# Altium integrated library 电子时钟元件库.IntLib: 16 symbols
Pins are listed as number, name and electrical type; pins without a type are passive.

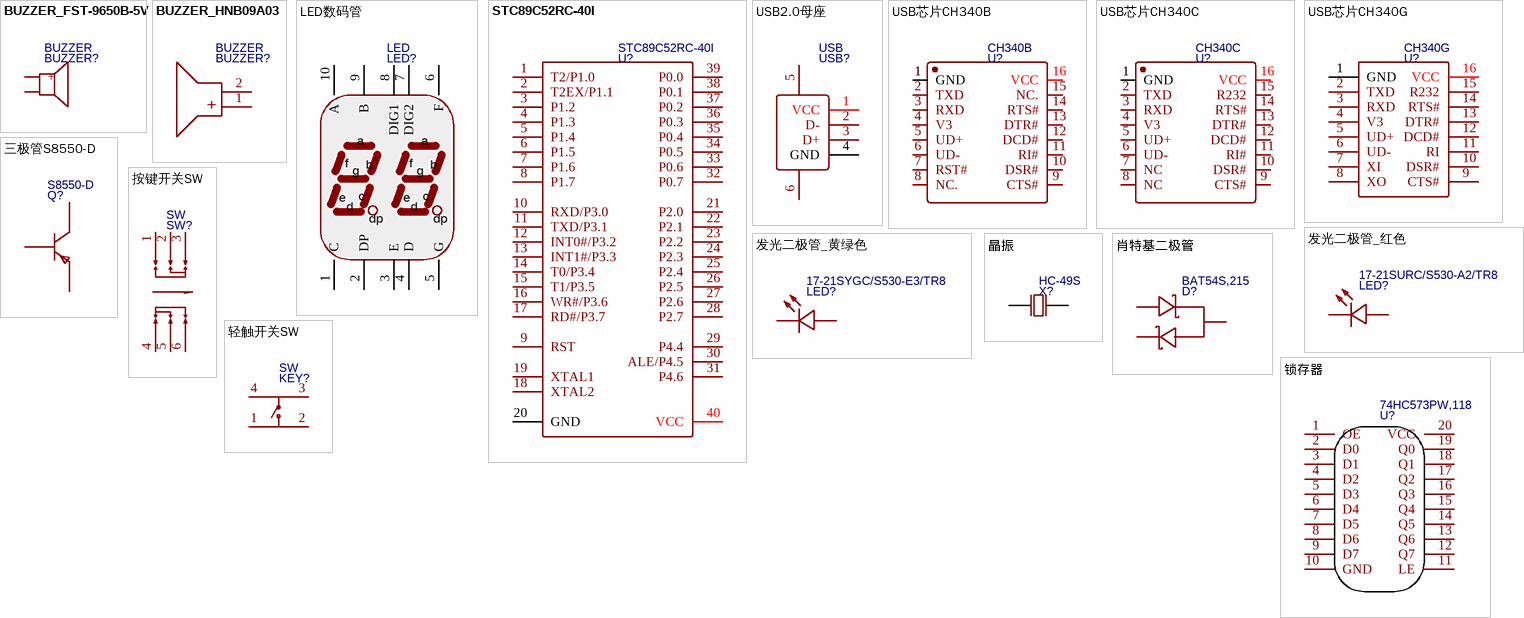
[diagram p0: symbols BUZZER_FST-9650B-5V to 锁存器]

## BUZZER_FST-9650B-5V
designator BUZZER?, comment BUZZER
BOM_Manufacturer: FUET; BOM_Manufacturer Part: FST-9650B-5V; Contributor: LCSC; BOM_Supplier: LCSC; BOM_Supplier Part: C391033; spicePre: B; spiceSymbolName: FST-9650B-5V
footprint BUZ-SMD_L9.6-W9.6-LS10.0-R
pins: 1 +, 2

## BUZZER_HNB09A03
designator BUZZER?, comment BUZZER
BOM_Manufacturer: Jiangsu Huaneng Elec; BOM_Manufacturer Part: HNB09A03; Contributor: LCSC; BOM_Supplier: LCSC; BOM_Supplier Part: C96102; spicePre: B; spiceSymbolName: HNB09A03
footprint BUZ-TH_BD9.0-P5.00-D0.6-FD
pins: 1 +, 2 -

## LED数码管
designator LED?, comment LED
BOM_Manufacturer: ARKLED; BOM_Manufacturer Part: SN460561N/0.56Inch/ /2Bit; BOM_Supplier: LCSC; BOM_Supplier Part: C118534; spicePre: L; spiceSymbolName: SN460561N/0.56Inch/ /2Bit
footprint LEDSEG_2_0.56_CATHODE
pins: 1 C, 2 DP, 3 E, 4 D, 5 G, 6 F, 7 DIG2, 8 DIG1, 9 B, 10 A
text: a; f; b; g; e; c; d; dp

## STC89C52RC-40I
designator U?
BOM_Manufacturer: STC; BOM_Supplier: LCSC; BOM_Manufacturer Part: STC89C52RC-40I; image: //image.lceda.cn/szlcsc/C14022.jpg; BOM_Supplier Part: C14022; spicePre: U; spiceSymbolName: STC89C52RC-40I
footprint DIP-40_LS15.24-L52.58-W13.97-PITCH2.54
pins: 1 T2/P1.0, 2 T2EX/P1.1, 3 P1.2, 4 P1.3, 5 P1.4, 6 P1.5, 7 P1.6, 8 P1.7, 9 RST, 10 RXD/P3.0, 11 TXD/P3.1, 12 INT0#/P3.2, 13 INT1#/P3.3, 14 T0/P3.4, 15 T1/P3.5, 16 WR#/P3.6, 17 RD#/P3.7, 18 XTAL2, 19 XTAL1, 20 GND, 21 P2.0, 22 P2.1, 23 P2.2, 24 P2.3, 25 P2.4, 26 P2.5, 27 P2.6, 28 P2.7, 29 P4.4, 30 ALE/P4.5, 31 P4.6, 32 P0.7, 33 P0.6, 34 P0.5, 35 P0.4, 36 P0.3, 37 P0.2, 38 P0.1, 39 P0.0, 40 VCC

## USB2.0母座
designator USB?, comment USB
BOM_Manufacturer: SHOU HAN; BOM_Manufacturer Part: AF90CBJ; Contributor: LCSC; BOM_Supplier: LCSC; BOM_Supplier Part: C404964; spicePre: U; spiceSymbolName: AF90CBJ
footprint USB-A-TH_AF90CBJ
pins: 1 VCC, 2 D-, 3 D+, 4 GND, 5 SH1, 6 SH2

## USB芯片CH340B
designator U?, comment CH340B
BOM_Manufacturer: WCH; BOM_Supplier: LCSC; BOM_Manufacturer Part: CH340B; image: //image.lceda.cn/szlcsc/C81010.jpg; BOM_Supplier Part: C81010; spicePre: U; spiceSymbolName: CH340B
footprint SOP-16_150MIL
pins: 1 GND, 2 TXD, 3 RXD, 4 V3, 5 UD+, 6 UD-, 7 RST#, 8 NC., 9 CTS#, 10 DSR#, 11 RI#, 12 DCD#, 13 DTR#, 14 RTS#, 15 NC., 16 VCC

## USB芯片CH340C
designator U?, comment CH340C
BOM_Manufacturer: WCH; BOM_Supplier: LCSC; BOM_Manufacturer Part: CH340C; BOM_Supplier Part: C84681; spicePre: U; spiceSymbolName: CH340C
footprint SOP-16_L10.0-W3.9-P1.27-LS6.0-BL
pins: 1 GND, 2 TXD, 3 RXD, 4 V3, 5 UD+, 6 UD-, 7 NC, 8 NC, 9 CTS#, 10 DSR#, 11 RI#, 12 DCD#, 13 DTR#, 14 RTS#, 15 R232, 16 VCC

## USB芯片CH340G
designator U?, comment CH340G
BOM_Manufacturer: WCH; SMT Type: Basic; timeStamp: 1468327462; BOM_Supplier: LCSC; BOM_Manufacturer Part: CH340G; BOM_LCSC Assembly: Yes; image: //image.lceda.cn/szlcsc/C14267.jpg; BOM_Supplier Part: C14267; spicePre: U; spiceSymbolName: CH340G
footprint SOIC-16_150MIL
pins: 1 GND, 2 TXD, 3 RXD, 4 V3, 5 UD+, 6 UD-, 7 XI, 8 XO, 9 CTS#, 10 DSR#, 11 RI, 12 DCD#, 13 DTR#, 14 RTS#, 15 R232, 16 VCC

## 三极管S8550-D
designator Q?, comment S8550-D
BOM_Manufacturer: BLUE ROCKET; Contributor: LCSC; BOM_Supplier: LCSC; BOM_Supplier Part: C305418; BOM_Manufacturer Part: S8550-D; spicePre: Q; spiceSymbolName: S8550-D
footprint TO-92-3_L4.9-W3.7-P1.27-R
pins: 1 C, 2 B, 3 E

## 发光二极管_红色
designator LED?, comment 17-21SURC/S530-A2/TR8
BOM_Manufacturer: EVERLIGHT; Contributor: LCSC; BOM_Supplier: LCSC; BOM_Manufacturer Part: 17-21SURC/S530-A2/TR8; BOM_Supplier Part: C131244; spicePre: L; spiceSymbolName: 17-21SURC/S530-A2/TR8
footprint LED0805-RD
pins: 1 K, 2 A

## 发光二极管_黄绿色
designator LED?, comment 17-21SYGC/S530-E3/TR8
BOM_Manufacturer: EVERLIGHT; Contributor: LCSC; BOM_Supplier: LCSC; BOM_Manufacturer Part: 17-21SYGC/S530-E3/TR8; BOM_Supplier Part: C142303; spicePre: L; spiceSymbolName: 17-21SYGC/S530-E3/TR8
footprint LED0805-RD
pins: 1 K, 2 A

## 按键开关SW
designator SW?, comment SW
BOM_Manufacturer: XKB Enterprise; BOM_Manufacturer Part: XKB8080-Z; Contributor: LCSC; BOM_Supplier: LCSC; BOM_Supplier Part: C318860; spicePre: S; spiceSymbolName: XKB8080-Z
footprint SW-TH_6P-L8.0-W8.0-P2.50
pins: 1, 2, 3, 4, 5, 6

## 晶振
designator X?, comment HC-49S
BOM_Manufacturer: TAITIEN Elec; BOM_Manufacturer Part: XIHCCCNANF-11.0592; nameAlias: Frequency; Contributor: LCSC; BOM_Supplier: LCSC; BOM_Supplier Part: C358645; spicePre: X; spiceSymbolName: XIHCCCNANF-11.0592
footprint HC-49US_L11.5-W4.5-P4.88
pins: 1 OSC1, 2 OSC2

## 肖特基二极管
designator D?, comment BAT54S,215
BOM_Manufacturer: Nexperia; SMT Type: Extend; BOM_Supplier: LCSC; BOM_Manufacturer Part: BAT54S,215; image: //image.lceda.cn/szlcsc/C47546.jpg; BOM_Supplier Part: C47546; BOM_LCSC Assembly: Yes; spicePre: D; spiceSymbolName: BAT54S,215
footprint SOT-23-3_L3.0-W1.7-P0.95-LS2.9-BR
pins: 1 A, 2 K, 3 AK

## 轻触开关SW
designator KEY?, comment SW
BOM_Manufacturer: HRO; BOM_Manufacturer Part: K2-6639DP-B4SW-04; BOM_Supplier: LCSC; BOM_Supplier Part: C83205; spicePre: K; spiceSymbolName: K2-6639DP-B4SW-04
footprint KEY-TH_4P-L6.0-W6.0-P4.50-LS7.5
pins: 1, 2, 3, 4

## 锁存器
designator U?, comment 74HC573PW,118
BOM_Manufacturer: Nexperia; SMT Type: Extend; BOM_Supplier: LCSC; BOM_Manufacturer Part: 74HC573PW,118; image: //image.lceda.cn/szlcsc/C5944.jpg; BOM_Supplier Part: C5944; BOM_LCSC Assembly: Yes; spicePre: U; spiceSymbolName: 74HC573PW,118
footprint TSSOP-20
pins: 1 OE, 2 D0, 3 D1, 4 D2, 5 D3, 6 D4, 7 D5, 8 D6, 9 D7, 10 GND, 11 LE, 12 Q7, 13 Q6, 14 Q5, 15 Q4, 16 Q3, 17 Q2, 18 Q1, 19 Q0, 20 VCC